# Altium schematic symbol library TCA9548A.SchLib: 1 symbol
Pins are listed as number, name and electrical type; pins without a type are passive.

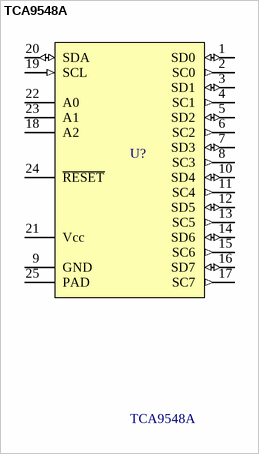
[diagram p0: symbol TCA9548A]

## TCA9548A
designator U?
Low-Voltage 8-Channel I2C Switch with Reset; Manufacturer: Texas Instruments; Part: TCA9548ARGER; Package: VQFN24
footprint VQFN24
pins: 1 SD0 (io), 2 SC0 (out), 3 SD1 (io), 4 SC1 (out), 5 SD2 (io), 6 SC2 (out), 7 SD3 (io), 8 SC3 (out), 9 GND (power), 10 SD4 (io), 11 SC4 (out), 12 SD5 (io), 13 SC5 (out), 14 SD6 (io), 15 SC6 (out), 16 SD7 (io), 17 SC7 (out), 18 A2, 19 SCL (in), 20 SDA (io), 21 Vcc (power), 22 A0, 23 A1, 24 ~{RESET}, 25 PAD (power)